# Altium schematic symbol library epf.SchLib: 28 symbols
Pins are listed as number, name and electrical type; pins without a type are passive.

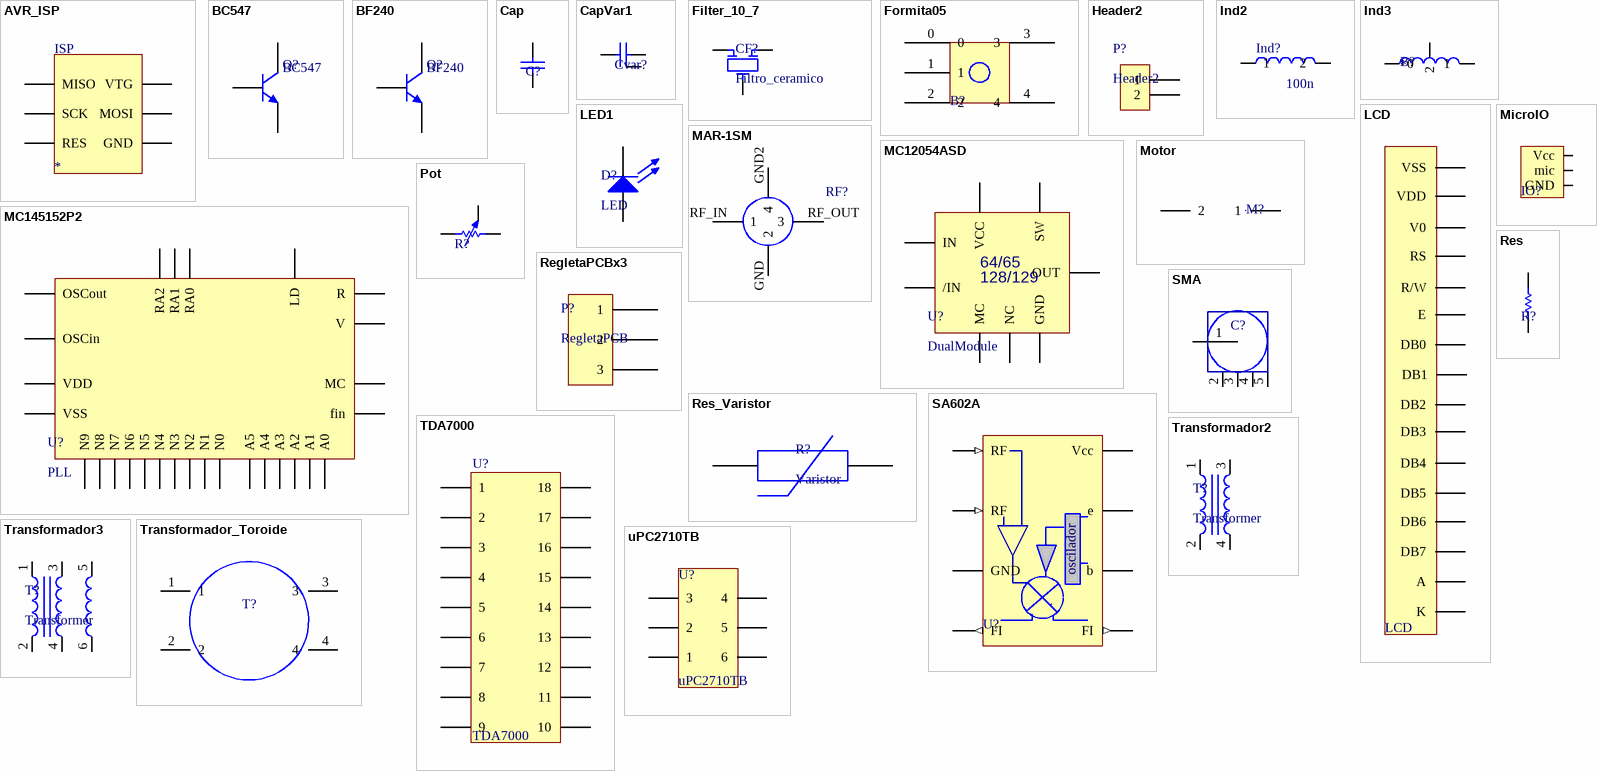
[diagram p0: symbols AVR_ISP to uPC2710TB]

## AVR_ISP
designator ISP
footprint ISP
footprint AVR_ISP
pins: 0 MISO, 1 VTG, 2 SCK, 3 MOSI, 4 RES, 5 GND

## BC547
designator Q?
footprint TO92 (TO, Flat Index; 3 In-Line, Axial Leads; Body Dia. 4.5mm; Leads 0.51 x 0.48 mm (max))
footprint BCY-W3 (TO, Flat Index; 3 In-Line, Axial Leads; Body Dia. 4.8mm; Leads 0.55 x 0.51 mm (max))
pins: 1 E, 2 B, 3 C

## BF240
designator Q?
footprint TO92 (TO, Flat Index; 3 In-Line, Axial Leads; Body Dia. 4.5mm; Leads 0.51 x 0.48 mm (max)); pin to pad 1>2 2>3 3>1
footprint BCY-W3 (TO, Flat Index; 3 In-Line, Axial Leads; Body Dia. 4.8mm; Leads 0.55 x 0.51 mm (max)); pin to pad 1>2 2>3 3>1
pins: 1 E, 2 B, 3 C

## Cap
designator C?, comment Capacitor  (value not drawn)
footprint 0805_CAP
pins: 1, 2

## CapVar1
designator Cvar?  (value not drawn)
footprint CapVarAmarillo (Amarillo)
footprint CapVarLila (50-100pf)
pins: 1, 2, 3

## Filter_10_7
designator CF?, comment Filtro_ceramico
footprint Filter_10_7
pins: 1, 2, 3

## Formita05
designator B?  (value not drawn)
Forma bobina d=0.5cm
footprint formita05 (Forma Bobina d=0.5cm)
pins: 0, 1, 2, 3, 4

## Header2
designator P?
footprint Header2Hembra
footprint Header2Macho
pins: 1, 2

## Ind2
designator Ind?  Valor: 100n  (hidden comment: *)
footprint Ind_5mm
footprint Ind_4mm
footprint Ind_3mm
footprint IND_7MM
footprint NTH12_2
pins: 1, 2

## Ind3
designator B?
footprint Ind 7mm
pins: 0, 1, 2

## LCD
designator LCD  (value not drawn)
footprint LCD
pins: 0 VSS, 1 VDD, 2 V0, 3 RS, 4 R/W, 5 E, 6 DB0, 7 DB1, 8 DB2, 9 DB3, 10 DB4, 11 DB5, 12 DB6, 13 DB7, 14 A, 15 K

## LED1
designator D?, comment LED
footprint PLCC-2Rojo
footprint PLCC-2Verde
pins: 1 A, 2 K

## MAR-1SM
designator RF?  (value not drawn)
footprint MAR-1; pin to pad GND>2 GND2>4 RF_IN>1 RF_OUT>3
pins: GND 2, GND2 4, RF_IN 1, RF_OUT 3

## MC12054ASD
designator U?, comment DualModule
footprint SO-8_2
footprint SO-8
pins: 1 IN, 2 VCC, 3 SW, 4 OUT, 5 GND, 6 MC, 7 NC, 8 /IN
text: 64/65; 128/129

## MC145152P2
designator U?, comment PLL
PLL paralelo doble modulo
footprint SOG28
pins: 1 fin, 2 VSS, 3 VDD, 4 RA0, 5 RA1, 6 RA2, 7 R, 8 V, 9 MC, 10 A5, 11 N0, 12 N1, 13 N2, 14 N3, 15 N4, 16 N5, 17 N6, 18 N7, 19 N8, 20 N9, 21 A1, 22 A2, 23 A0, 24 A3, 25 A4, 26 OSCout, 27 OSCin, 28 LD

## MicroIO
designator IO?  (value not drawn)
footprint MicroIO3x1
pins: 0 Vcc, 1 mic, 2 GND

## Motor
designator M?  (value not drawn)
footprint Motor1
pins: 1, 2

## Pot
designator R?
footprint Potenciometro
pins: 1, 2, 3

## RegletaPCBx3
designator P?, comment RegletaPCB
footprint RegletaPCBx3
pins: 1, 2, 3

## Res
designator R?, comment Resistor  (value not drawn)
footprint 0805_RES
pins: 1, 2

## Res_Varistor
designator R?, comment Varistor
footprint Varistor
pins: 1, 2

## SA602A
designator U?, comment SA602  (value not drawn)
Mezclador 500MHz
footprint DIP8
footprint SO-8
footprint SO-8_2
pins: 1 RF (in), 2 RF (in), 3 GND, 4 FI (out), 5 FI (out), 6 b, 7 e, 8 Vcc
text: oscilador

## SMA
designator C?  (value not drawn)
footprint SMA1
footprint SMAL2
pins: 1 RF, 2 GND, 3 GND, 4 GND, 5 GND

## TDA7000
designator U?
footprint TDA7000
pins: 1, 2, 3, 4, 5, 6, 7, 8, 9, 10, 11, 12, 13, 14, 15, 16, 17, 18

## Transformador2
designator T?, comment Transformer
Transformador 2 bobinas
footprint NTH12_V_2Ind
pins: 1, 2, 3, 4

## Transformador3
designator T?, comment Transformer
Transformador 3 bobinas
footprint NTH12_V_3Ind
footprint NTH12_V_3Ind_2
pins: 1, 2, 3, 4, 5, 6

## Transformador_Toroide
designator T?, comment Toroide  (value not drawn)
footprint NTH12
footprint NTH12_4
pins: 1, 2, 3, 4

## uPC2710TB
designator U?
footprint UPC2710TB2; pin to pad GND1>2 GND2>3 GND3>5 RF_IN>1 RF_OUT>4 Vcc>6
pins: GND1 2, GND2 3, GND3 5, RF_IN 1, RF_OUT 4, Vcc 6